# Altium schematic symbol library PESD5V0L1BA.Schlib: 1 symbol
Pins are listed as number, name and electrical type; pins without a type are passive.

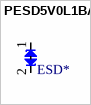
[diagram p0: symbol PESD5V0L1BA]

## PESD5V0L1BA
designator ESD*
CAN bus ESD protection diode
footprint SOD323 (SOD-323/SC-76; 2 Leads; Body 1.7 x 1.3 mm, (LxW))
footprint SOD-323 inverted (SC-76 plastic surface mounted package; 2 leads)
pins: 1 C1 "Cathod 1", 2 C2